# Altium schematic symbol library PowerMangment.SchLib: 147 symbols (part 1 of 2)
Pins are listed as number, name and electrical type; pins without a type are passive.

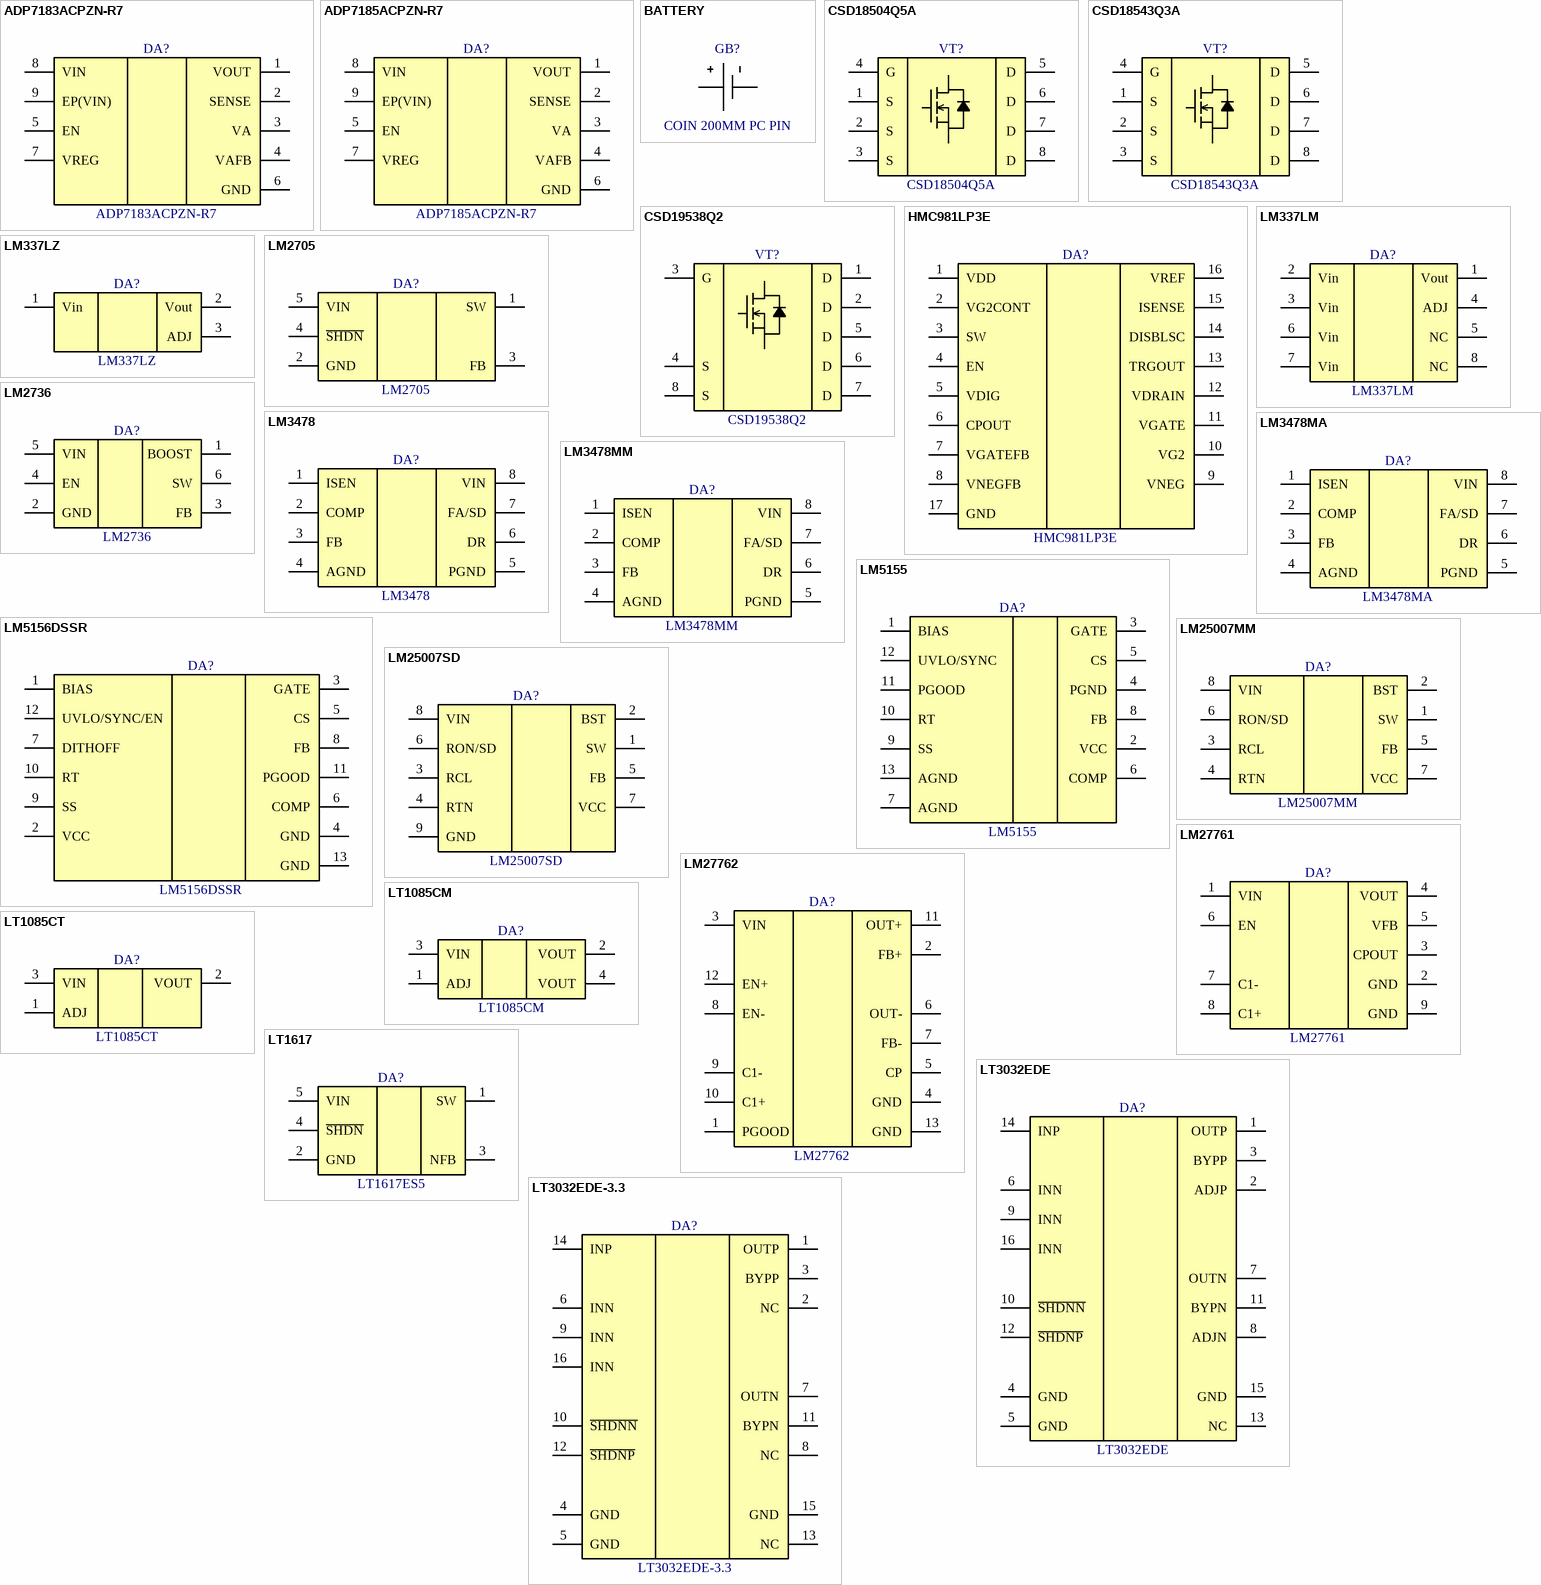
[diagram p0: symbols ADP7183ACPZN-R7 to LT3032EDE-3.3]

## ADP7183ACPZN-R7
designator DA?
−300 mA, Ultralow Noise, High PSRR, Low Dropout Linear Regulator, Adj.; Manufacturer: Analog Devices; PartNumber: ADP7183ACPZN-R7; ComponentLink1Description: Product Page; ComponentLink1URL: https://www.analog.com/en/products/ADP7183.html; ComponentLink2Description: DataSheet; ComponentLink2URL: https://www.analog.com/media/en/technical-documentation/data-sheets/ADP7183.pdf
footprint SON9P50_200X200X60L25X25T150X100N (Small Outline No-Lead (SON with Tab), 0.50 mm pitch; 8 pin, 2.00 mm L X 2.00 mm W X 0.60 mm H body)
pins: 1 VOUT, 2 SENSE, 3 VA, 4 VAFB, 5 EN, 6 GND, 7 VREG, 8 VIN, 9 EP(VIN)

## ADP7185ACPZN-R7
designator DA?
−300 mA, Ultralow Noise, High PSRR, Low Dropout Linear Regulator, Adj.; Manufacturer: Analog Devices; PartNumber: ADP7185ACPZN-R7; ComponentLink1Description: Product Page; ComponentLink1URL: https://www.analog.com/en/products/adp7185.html; ComponentLink2Description: DataSheet; ComponentLink2URL: https://www.analog.com/media/en/technical-documentation/data-sheets/ADP7185.pdf
footprint SON9P50_200X200X60L25X25T150X100N (Small Outline No-Lead (SON with Tab), 0.50 mm pitch; 8 pin, 2.00 mm L X 2.00 mm W X 0.60 mm H body)
pins: 1 VOUT, 2 SENSE, 3 VA, 4 VAFB, 5 EN, 6 GND, 7 VREG, 8 VIN, 9 EP(VIN)

## BATTERY
designator GB?, comment COIN 200MM PC PIN
Battery Holder; PartNumber: 120591-1; Manufacturer: TE Connectivity; BatteryType: COIN 200MM PC PIN; ComponentLink1Description: Product Page; ComponentLink1URL: https://www.te.com/usa-en/product-120591-1.html; ComponentLink2Description: DataSheet; ComponentLink2URL: https://www.te.com/usa-en/product-120591-1.datasheet.pdf
footprint TECO-120591-1-2_V (Lithium Battery Holder)
pins: 1, 2

## CSD18504Q5A
designator VT?
40-V N-Channel NexFET™ Power MOSFET; Manufacturer: Texas Instruments; PartNumber: CSD18504Q5A; ComponentLink1Description: Product Page; ComponentLink1URL: https://www.ti.com/product/CSD18504Q5A; ComponentLink2Description: DataSheet; ComponentLink2URL: https://www.ti.com/lit/gpn/csd18504q5a
footprint CSD18504Q5A (Texus Instruments Q5A Package)
pins: 1 S, 2 S, 3 S, 4 G, 5 D, 6 D, 7 D, 8 D

## CSD18543Q3A
designator VT?
60-V N-Channel NexFET™ Power MOSFET; Manufacturer: Texas Instruments; PartNumber: CSD18543Q3A; ComponentLink1Description: Product Page; ComponentLink1URL: https://www.ti.com/product/CSD18543Q3A; ComponentLink2Description: DataSheet; ComponentLink2URL: https://www.ti.com/lit/gpn/csd18543q3a
footprint CSD18543Q3A (Texas Instruments Q3A Package)
pins: 1 S, 2 S, 3 S, 4 G, 5 D, 6 D, 7 D, 8 D

## CSD19538Q2
designator VT?
100-V, N channel NexFET™ power MOSFET, single SON 2 mm x 2 mm, 59 mOhm; Manufacturer: Texas Instruments; PartNumber: CSD19538Q2; ComponentLink1Description: Product Page; ComponentLink1URL: https://www.ti.com/product/CSD19538Q2; ComponentLink2Description: DataSheet; ComponentLink2URL: https://www.ti.com/lit/gpn/csd19538q2
footprint TI DQK S-PWSON-N6 (TI Plastic Small Outline No-Lead 6pins, 2 gnd)
pins: 1 D, 2 D, 3 G, 4 S, 5 D, 6 D, 7 D, 8 S

## HMC981LP3E
designator DA?
ACTIVE BIAS CONTROLLER; Manufacturer: Analog Devices; PartNumber: HMC981LP3E; ComponentLink1Description: Product Page; ComponentLink1URL: https://www.analog.com/en/products/hmc981lp3e.html; ComponentLink2Description: DataSheet; ComponentLink2URL: https://www.analog.com/media/en/technical-documentation/data-sheets/hmc981.pdf
footprint QFN17P50_300X300X100L40X24T173N (Quad Flat No-Lead (QFN with Tab), 0.50 mm pitch; square, 4 pin X 4 pin, 3.00 mm L X 3.00 mm W X 1.00 mm H body)
pins: 1 VDD, 2 VG2CONT, 3 SW, 4 EN, 5 VDIG, 6 CPOUT, 7 VGATEFB, 8 VNEGFB, 9 VNEG, 10 VG2, 11 VGATE, 12 VDRAIN, 13 TRGOUT, 14 DISBLSC, 15 ISENSE, 16 VREF, 17 GND

## LM337LM
designator DA?
Negative 3-Terminal Adjustable Regulator, SOIC; Manufacturer: Texas Instruments; ComponentLink1Description: Product Page; ComponentLink1URL: https://www.ti.com/product/LM337L; PartNumber: LM337LM; ComponentLink2Description: DataSheet; ComponentLink2URL: https://www.ti.com/lit/gpn/lm337l
footprint SOIC8P127_490X600X175L83X41N (Small Outline IC (SOIC), 1.27 mm pitch; 8 pin, 4.90 mm L X 3.90 mm W X 1.75 mm H body)
pins: 1 Vout, 2 Vin, 3 Vin, 4 ADJ, 5 NC, 6 Vin, 7 Vin, 8 NC

## LM337LZ
designator DA?
Negative 3-Terminal Adjustable Regulator, TO-92; Manufacturer: Texas Instruments; ComponentLink1Description: Product Page; ComponentLink1URL: https://www.ti.com/product/LM337L; PartNumber: LM337LZ; ComponentLink2Description: DataSheet; ComponentLink2URL: https://www.ti.com/lit/gpn/lm337l
footprint TI TO-92 5.34 mm LP0003A
footprint TI TO-92 5.34 mm LP0003A_wide_2.6mm
pins: 1 Vin, 2 Vout, 3 ADJ

## LM2705
designator DA?
Micropower Step-Up DC-DC Converter With 150-mA Peak Current Limit; Manufacturer: Texas Instruments; PartNumber: LM2705; ComponentLink1Description: Product Page; ComponentLink1URL: https://www.ti.com/product/LM2705; ComponentLink2Description: DataSheet; ComponentLink2URL: https://www.ti.com/lit/gpn/lm2705
footprint SOT23-5P95_280X145L60X40N (Small Outline Transistor (SOT23), 0.95 mm pitch; 5 pin, 2.90 mm L X 1.60 mm W X 1.45 mm H body)
pins: 1 SW, 2 GND, 3 FB, 4 ~{SHDN}, 5 VIN

## LM2736
designator DA?
LM2736Thin SOT 750 mA Load Step-DownDC-DCRegulator; Manufacturer: Texas Instruments; PartNumber: LM2736; ComponentLink1Description: Product Page; ComponentLink1URL: https://www.ti.com/product/LM2736; ComponentLink2Description: DataSheet; ComponentLink2URL: https://www.ti.com/lit/gpn/lm2736
footprint SOT23-6P95_280X110L45X40N (Small Outline Transistor (SOT23), 0.95 mm pitch; 6 pin, 2.90 mm L X 1.60 mm W X 1.10 mm H body)
pins: 1 BOOST, 2 GND, 3 FB, 4 EN, 5 VIN, 6 SW

## LM3478
designator DA?
High-Efficiency Low-Side N-Channel Controller for Switching Regulator; Manufacturer: Texas Instruments; PartNumber: LM3478; ComponentLink1Description: Product Page; ComponentLink1URL: https://www.ti.com/product/LM3478; ComponentLink2Description: DataSheet; ComponentLink2URL: https://www.ti.com/lit/gpn/lm3478
footprint SOIC8P127_490X600X175L83X41N (Small Outline IC (SOIC), 1.27 mm pitch; 8 pin, 4.90 mm L X 3.90 mm W X 1.75 mm H body)
footprint SOP8P65_300X490X110L55X31N (Small Outline Pkg (SOP), 0.65 mm pitch; 8 pin, 3.00 mm L X 3.00 mm W X 1.10 mm H body)
pins: 1 ISEN, 2 COMP, 3 FB, 4 AGND, 5 PGND, 6 DR, 7 FA/SD, 8 VIN

## LM3478MA
designator DA?
High-Efficiency Low-Side N-Channel Controller for Switching Regulator, SOIC-8; Manufacturer: Texas Instruments; PartNumber: LM3478MA; ComponentLink1Description: Product Page; ComponentLink1URL: https://www.ti.com/product/LM3478; ComponentLink2Description: DataSheet; ComponentLink2URL: https://www.ti.com/lit/gpn/lm3478
footprint SOIC8P127_490X600X175L83X41N (Small Outline IC (SOIC), 1.27 mm pitch; 8 pin, 4.90 mm L X 3.90 mm W X 1.75 mm H body)
pins: 1 ISEN, 2 COMP, 3 FB, 4 AGND, 5 PGND, 6 DR, 7 FA/SD, 8 VIN

## LM3478MM
designator DA?
High-Efficiency Low-Side N-Channel Controller for Switching Regulator, VSSOP-8; Manufacturer: Texas Instruments; PartNumber: LM3478MM; ComponentLink1Description: Product Page; ComponentLink1URL: https://www.ti.com/product/LM3478; ComponentLink2Description: DataSheet; ComponentLink2URL: https://www.ti.com/lit/gpn/lm3478
footprint SOP8P65_300X490X110L55X31N (Small Outline Pkg (SOP), 0.65 mm pitch; 8 pin, 3.00 mm L X 3.00 mm W X 1.10 mm H body)
pins: 1 ISEN, 2 COMP, 3 FB, 4 AGND, 5 PGND, 6 DR, 7 FA/SD, 8 VIN

## LM5155
designator DA?
LM5155 2.2-MHz Wide Input Nonsynchronous Boost, SEPIC, Flyback Controller; Manufacturer: Texas Instruments; PartNumber: LM5155; ComponentLink1Description: Product Page; ComponentLink1URL: https://www.ti.com/lit/gpn/lm5155; ComponentLink2Description: DataSheet; ComponentLink2URL: https://www.ti.com/lit/gpn/lm5155
footprint SON13P50_300X200X80L30X25T265X100N (Small Outline No-Lead (SON with Tab), 0.50 mm pitch; 12 pin, 3.00 mm L X 2.00 mm W X 0.80 mm H body)
pins: 1 BIAS, 2 VCC, 3 GATE, 4 PGND, 5 CS, 6 COMP, 7 AGND, 8 FB, 9 SS, 10 RT, 11 PGOOD, 12 UVLO/SYNC, 13 AGND

## LM5156DSSR
designator DA?
2.2-MHz Wide VIN 65-V Non-synchronous Boost/SEPIC/Flyback Controller with Dual Random Spread Spectrum; Manufacturer: Texas Instruments; PartNumber: LM5156DSSR; ComponentLink1Description: Product Page; ComponentLink1URL: https://www.ti.com/product/LM5156; ComponentLink2Description: DataSheet; ComponentLink2URL: https://www.ti.com/lit/gpn/lm5156
footprint SON13P50_300X200X80L30X25T265X100N (Small Outline No-Lead (SON with Tab), 0.50 mm pitch; 12 pin, 3.00 mm L X 2.00 mm W X 0.80 mm H body)
pins: 1 BIAS, 2 VCC, 3 GATE, 4 GND, 5 CS, 6 COMP, 7 DITHOFF, 8 FB, 9 SS, 10 RT, 11 PGOOD, 12 UVLO/SYNC/EN, 13 GND

## LM25007MM
designator DA?
LM25007 42V, 0.5A Step-Down Switching Regulator; Manufacturer: Texas Instruments; PartNumber: LM25007MM; ComponentLink1Description: Product Page; ComponentLink1URL: https://www.ti.com/product/LM25007; ComponentLink2Description: DataSheet; ComponentLink2URL: https://www.ti.com/lit/gpn/lm25007
footprint SOP8P65_300X490X110L55X31N (Small Outline Pkg (SOP), 0.65 mm pitch; 8 pin, 3.00 mm L X 3.00 mm W X 1.10 mm H body)
pins: 1 SW, 2 BST, 3 RCL, 4 RTN, 5 FB, 6 RON/SD, 7 VCC, 8 VIN

## LM25007SD
designator DA?
LM25007 42V, 0.5A Step-Down Switching Regulator; Manufacturer: Texas Instruments; PartNumber: LM25007SD; ComponentLink1Description: Product Page; ComponentLink1URL: https://www.ti.com/product/LM25007; ComponentLink2Description: DataSheet; ComponentLink2URL: https://www.ti.com/lit/gpn/lm25007
footprint SON9P80_400X400X80L40X30T300X260N (Small Outline No-Lead (SON with Tab), 0.80 mm pitch; 8 pin, 4.00 mm L X 4.00 mm W X 0.80 mm H body)
pins: 1 SW, 2 BST, 3 RCL, 4 RTN, 5 FB, 6 RON/SD, 7 VCC, 8 VIN, 9 GND

## LM27761
designator DA?
LM27761 Low-Noise, Regulated, Switched-Capacitor Voltage Inverter; Manufacturer: Texas Instruments; PartNumber: LM27761; ComponentLink1Description: Product Page; ComponentLink1URL: https://www.ti.com/product/LM27761; ComponentLink2Description: DataSheet; ComponentLink2URL: https://www.ti.com/lit/gpn/lm27761
footprint SON9P50_200X200X80L30X25T160X90N (Small Outline No-Lead (SON with Tab), 0.50 mm pitch; 8 pin, 2.00 mm L X 2.00 mm W X 0.80 mm H body)
pins: 1 VIN, 2 GND, 3 CPOUT, 4 VOUT, 5 VFB, 6 EN, 7 C1-, 8 C1+, 9 GND

## LM27762
designator DA?
Low-Noise Positive- and Negative-Output Charge Pump With Integrated LDO; Manufacturer: Texas Instruments; PartNumber: LM27762; ComponentLink1Description: Product Page; ComponentLink1URL: https://www.ti.com/product/LM27762; ComponentLink2Description: DataSheet; ComponentLink2URL: https://www.ti.com/lit/gpn/lm27762
footprint SON13P50_300X200X80L30X25T265X100N (Small Outline No-Lead (SON with Tab), 0.50 mm pitch; 12 pin, 3.00 mm L X 2.00 mm W X 0.80 mm H body)
pins: 1 PGOOD, 2 FB+, 3 VIN, 4 GND, 5 CP, 6 OUT-, 7 FB-, 8 EN-, 9 C1-, 10 C1+, 11 OUT+, 12 EN+, 13 GND

## LT1085CM
designator DA?
3A Low Dropout Positive Adjustable Regulators, DPAK; Manufacturer: Analog Devices; PartNumber: LT1085CM; ComponentLink1Description: Product Page; ComponentLink1URL: https://www.analog.com/en/products/LT1085.html; ComponentLink2Description: DataSheet; ComponentLink2URL: https://www.analog.com/media/en/technical-documentation/data-sheets/108345fh.pdf
footprint DPAK4P254_1390X460L127X127T770X1070N (DPAK, 2.54 mm pitch; 3 pin, 8.90 mm L X 10.20 mm W X 4.60 mm H body)
pins: 1 ADJ, 2 VOUT, 3 VIN, 4 VOUT

## LT1085CT
designator DA?
3A Low Dropout Positive Adjustable Regulators, TO-220; Manufacturer: Analog Devices; PartNumber: LT1085CT; ComponentLink1Description: Product Page; ComponentLink1URL: https://www.analog.com/en/products/lt1085.html; ComponentLink2Description: DataSheet; ComponentLink2URL: https://www.analog.com/media/en/technical-documentation/data-sheets/108345fh.pdf
footprint TO254P1050X460X2165-3 (TO-220 Vertical)
footprint TO254P1574X1054X457-4 (Flange Mount (TO-220) Horizontal, 2.54 mm pitch; 3 pin, 15.748 mm L X 10.541 mm W X 4.572 mm H body)
pins: 1 ADJ, 2 VOUT, 3 VIN

## LT1617
designator DA?, comment LT1617ES5
Micropower Inverting DC/DC Converters in SOT-23; Manufacturer: Analog Devices; PartNumber: LT1617ES5; ComponentLink1Description: Product Page; ComponentLink1URL: https://www.analog.com/en/products/lt1617.html; ComponentLink2Description: DataSheet; ComponentLink2URL: https://www.analog.com/media/en/technical-documentation/data-sheets/16171f.pdf
footprint SOT23-5P95_280X145L35X42N (Small Outline Transistor (SOT23), 0.95 mm pitch; 5 pin, 2.90 mm L X 1.625 mm W X 1.45 mm H body)
pins: 1 SW, 2 GND, 3 NFB, 4 ~{SHDN}, 5 VIN

## LT3032EDE
designator DA?
Dual 150mA Positive/Negative Low Noise Low Dropout Linear Regulator, ±Adj; Manufacturer: Analog Devices; PartNumber: LT3032EDE; ComponentLink1Description: Product Page; ComponentLink1URL: https://www.analog.com/en/products/LT3032.html; ComponentLink2Description: DataSheet; ComponentLink2URL: https://www.analog.com/media/en/technical-documentation/data-sheets/3032ff.pdf
footprint LT3032 (DE14MA Package / 14-Lead Plastic DFN (4mm × 3mm))
pins: 1 OUTP, 2 ADJP, 3 BYPP, 4 GND, 5 GND, 6 INN, 7 OUTN, 8 ADJN, 9 INN, 10 ~{SHDNN}, 11 BYPN, 12 ~{SHDNP}, 13 NC, 14 INP, 15 GND, 16 INN

## LT3032EDE-3.3
designator DA?
Dual 150mA Positive/Negative Low Noise Low Dropout Linear Regulator, ±3.3V Fixed; Manufacturer: Analog Devices; PartNumber: LT3032EDE-3.3; ComponentLink1Description: Product Page; ComponentLink1URL: https://www.analog.com/en/products/LT3032.html; ComponentLink2Description: DataSheet; ComponentLink2URL: https://www.analog.com/media/en/technical-documentation/data-sheets/3032ff.pdf
footprint LT3032 (DE14MA Package / 14-Lead Plastic DFN (4mm × 3mm))
pins: 1 OUTP, 2 NC, 3 BYPP, 4 GND, 5 GND, 6 INN, 7 OUTN, 8 NC, 9 INN, 10 ~{SHDNN}, 11 BYPN, 12 ~{SHDNP}, 13 NC, 14 INP, 15 GND, 16 INN

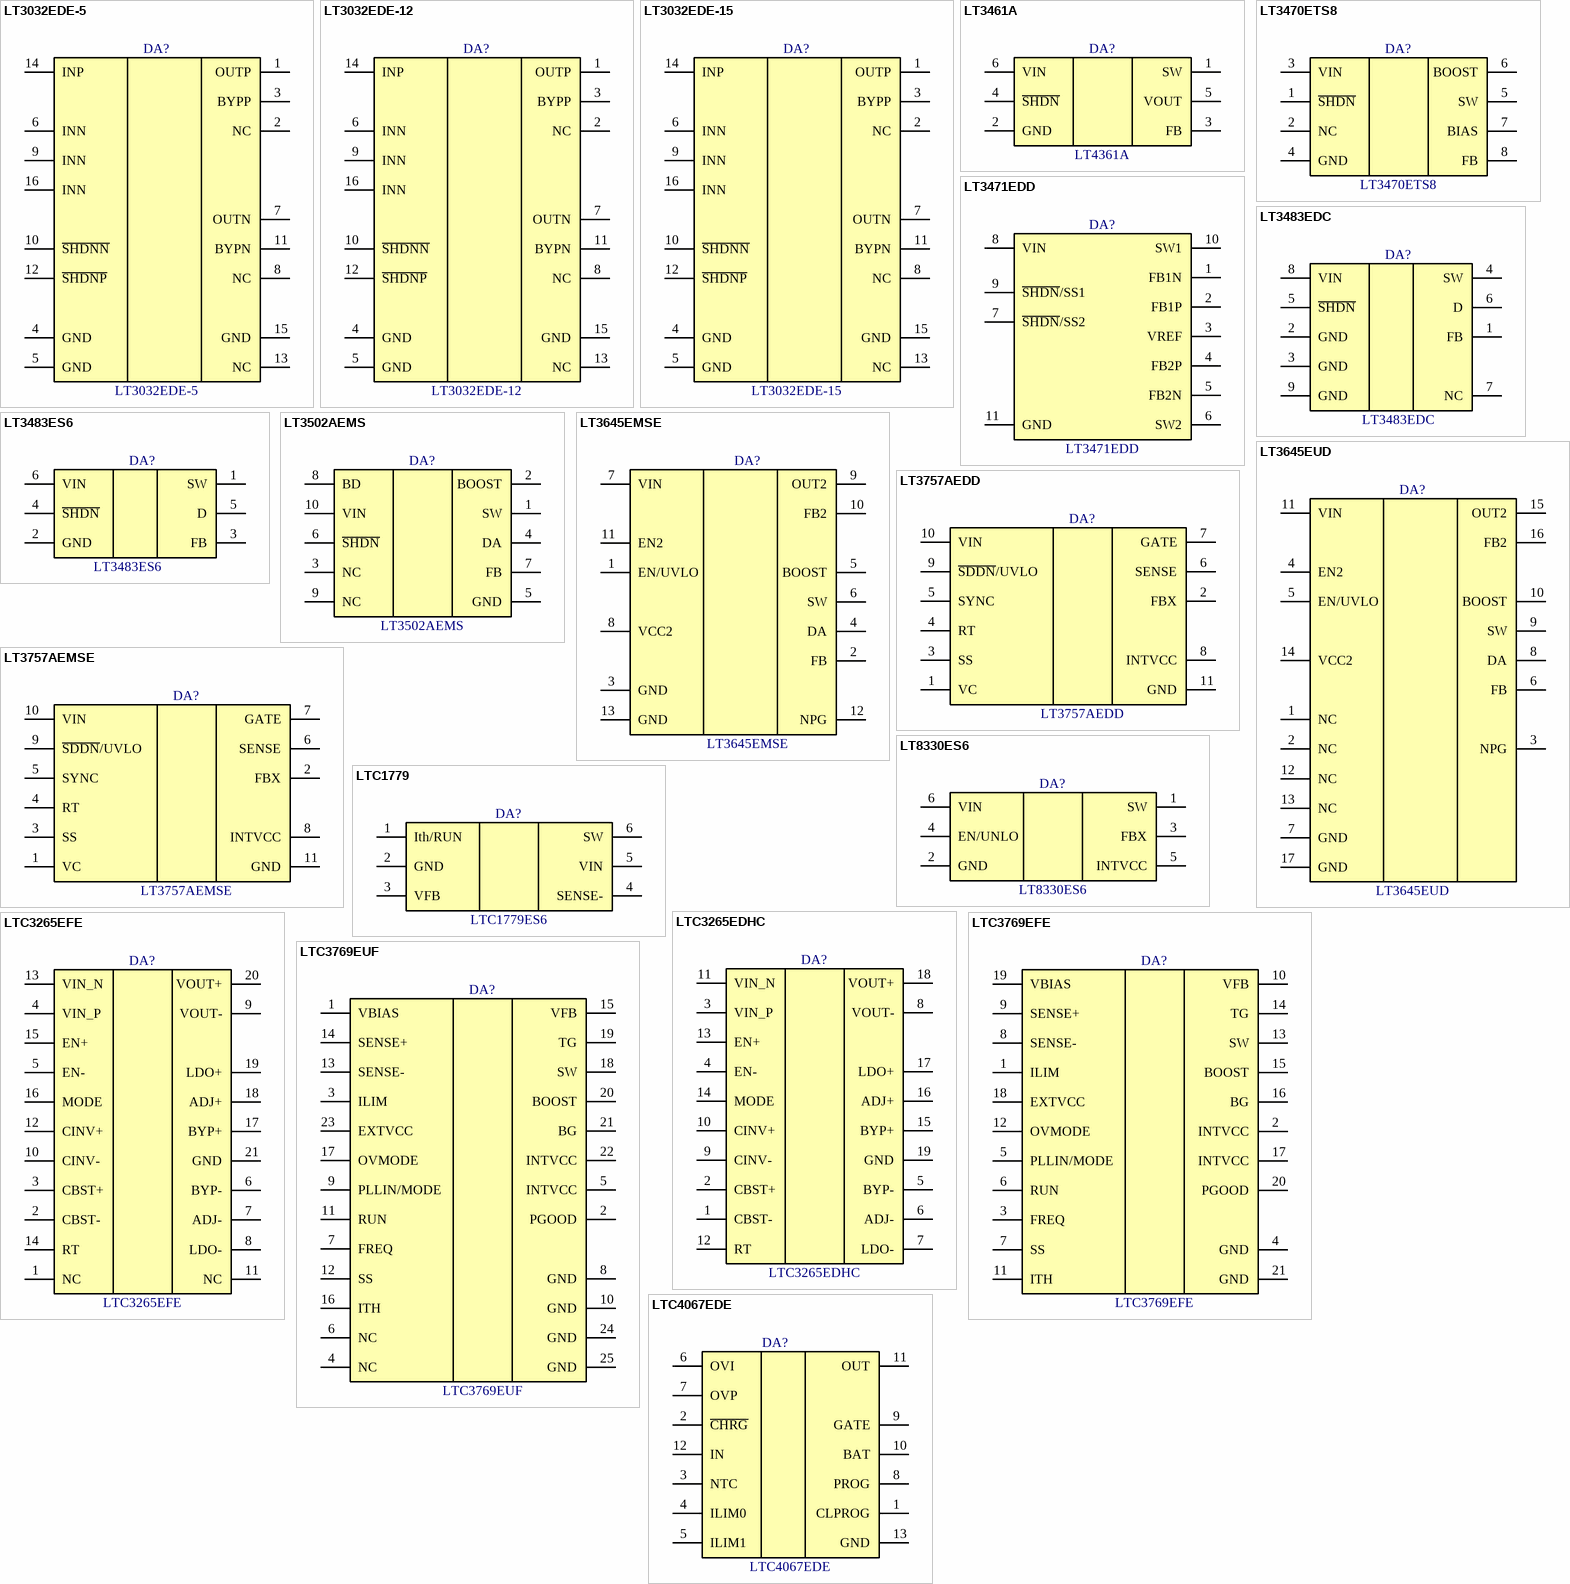
[diagram p1: symbols LT3032EDE-5 to LTC4067EDE]

## LT3032EDE-5
designator DA?
Dual 150mA Positive/Negative Low Noise Low Dropout Linear Regulator, ±5V Fixed; Manufacturer: Analog Devices; PartNumber: LT3032EDE-5; ComponentLink1Description: Product Page; ComponentLink1URL: https://www.analog.com/en/products/LT3032.html; ComponentLink2Description: DataSheet; ComponentLink2URL: https://www.analog.com/media/en/technical-documentation/data-sheets/3032ff.pdf
footprint LT3032 (DE14MA Package / 14-Lead Plastic DFN (4mm × 3mm))
pins: 1 OUTP, 2 NC, 3 BYPP, 4 GND, 5 GND, 6 INN, 7 OUTN, 8 NC, 9 INN, 10 ~{SHDNN}, 11 BYPN, 12 ~{SHDNP}, 13 NC, 14 INP, 15 GND, 16 INN

## LT3032EDE-12
designator DA?
Dual 150mA Positive/Negative Low Noise Low Dropout Linear Regulator, ±12V Fixed; Manufacturer: Analog Devices; PartNumber: LT3032EDE-12; ComponentLink1Description: Product Page; ComponentLink1URL: https://www.analog.com/en/products/LT3032.html; ComponentLink2Description: DataSheet; ComponentLink2URL: https://www.analog.com/media/en/technical-documentation/data-sheets/3032ff.pdf
footprint LT3032 (DE14MA Package / 14-Lead Plastic DFN (4mm × 3mm))
pins: 1 OUTP, 2 NC, 3 BYPP, 4 GND, 5 GND, 6 INN, 7 OUTN, 8 NC, 9 INN, 10 ~{SHDNN}, 11 BYPN, 12 ~{SHDNP}, 13 NC, 14 INP, 15 GND, 16 INN

## LT3032EDE-15
designator DA?
Dual 150mA Positive/Negative Low Noise Low Dropout Linear Regulator, ±15V Fixed; Manufacturer: Analog Devices; PartNumber: LT3032EDE-15; ComponentLink1Description: Product Page; ComponentLink1URL: https://www.analog.com/en/products/LT3032.html; ComponentLink2Description: DataSheet; ComponentLink2URL: https://www.analog.com/media/en/technical-documentation/data-sheets/3032ff.pdf
footprint LT3032 (DE14MA Package / 14-Lead Plastic DFN (4mm × 3mm))
pins: 1 OUTP, 2 NC, 3 BYPP, 4 GND, 5 GND, 6 INN, 7 OUTN, 8 NC, 9 INN, 10 ~{SHDNN}, 11 BYPN, 12 ~{SHDNP}, 13 NC, 14 INP, 15 GND, 16 INN

## LT3461A
designator DA?, comment LT4361A
3MHz Step-Up DC/DC Converters with Integrated Schottky in ThinSOT; Manufacturer: Analog Devices; PartNumber: LT4361A; ComponentLink1Description: Product Page; ComponentLink1URL: https://www.analog.com/en/products/lt3461a.html; ComponentLink2Description: DataSheet; ComponentLink2URL: https://www.analog.com/media/en/technical-documentation/data-sheets/3461Afa.pdf
footprint SOT95P280X100-6N (SOT23, 6-Leads, Body 2.90x2.80mm, Pitch 0.95mm, IPC Medium Density)
pins: 1 SW, 2 GND, 3 FB, 4 ~{SHDN}, 5 VOUT, 6 VIN

## LT3470ETS8
designator DA?
Micropower Buck Regulator with Integrated Boost and Catch Diodes, 8-Lead TSOT-23; Manufacturer: Analog Devices; PartNumber: LT3470ETS8; ComponentLink1Description: Product Page; ComponentLink1URL: https://www.analog.com/en/products/LT3470.html; ComponentLink2Description: DataSheet; ComponentLink2URL: https://www.analog.com/media/en/technical-documentation/data-sheets/lt3470.pdf
footprint SOT23-8P65_280X100L40X29N (Small Outline Transistor (SOT23), 0.65 mm pitch; 8 pin, 2.90 mm L X 1.625 mm W X 1.00 mm H body)
pins: 1 ~{SHDN}, 2 NC, 3 VIN, 4 GND, 5 SW, 6 BOOST, 7 BIAS, 8 FB

## LT3471EDD
designator DA?
Dual 1.3A, 1.2MHz Boost/Inverter in 3mm × 3mm DFN; Manufacturer: Analog Devices; PartNumber: LT3471EDD; ComponentLink1Description: Product Page; ComponentLink1URL: https://www.analog.com/en/products/lt3471.html; ComponentLink2Description: DataSheet; ComponentLink2URL: https://www.analog.com/media/en/technical-documentation/data-sheets/3471fb.pdf
footprint SON11P50_300X300X80L38X25T238X165N (Small Outline No-Lead (SON with Tab), 0.50 mm pitch; 10 pin, 3.00 mm L X 3.00 mm W X 0.80 mm H body)
pins: 1 FB1N, 2 FB1P, 3 VREF, 4 FB2P, 5 FB2N, 6 SW2, 7 ~{SHDN}/SS2, 8 VIN, 9 ~{SHDN}/SS1, 10 SW1, 11 GND

## LT3483EDC
designator DA?
Inverting Micropower DC/DC Converters with Schottky; Manufacturer: Analog Devices; PartNumber: LT3483EDC; ComponentLink1Description: Product Page; ComponentLink1URL: https://www.analog.com/en/products/lt3483.html; ComponentLink2Description: DataSheet; ComponentLink2URL: https://www.analog.com/media/en/technical-documentation/data-sheets/3483fc.pdf
footprint SON9P45_200X200X80L40X23T137X64N (Small Outline No-Lead (SON with Tab), 0.45 mm pitch; 8 pin, 2.00 mm L X 2.00 mm W X 0.80 mm H body)
pins: 1 FB, 2 GND, 3 GND, 4 SW, 5 ~{SHDN}, 6 D, 7 NC, 8 VIN, 9 GND

## LT3483ES6
designator DA?
Inverting Micropower DC/DC Converters with Schottky; Manufacturer: Analog Devices; PartNumber: LT3483ES6; ComponentLink1Description: Product Page; ComponentLink1URL: https://www.analog.com/en/products/lt3483.html; ComponentLink2Description: DataSheet; ComponentLink2URL: https://www.analog.com/media/en/technical-documentation/data-sheets/3483fc.pdf
footprint SOP6P95_290X280X100L40X37N (Small Outline Pkg (SOP), 0.95 mm pitch; 6 pin, 2.90 mm L X 1.625 mm W X 1.00 mm H body)
pins: 1 SW, 2 GND, 3 FB, 4 ~{SHDN}, 5 D, 6 VIN

## LT3502AEMS
designator DA?
2.2MHz, 500mA Step-Down Regulator, MS10 (SOP10); Manufacturer: Analog Devices; PartNumber: LT3502AEMS; ComponentLink1Description: Product Page; ComponentLink1URL: https://www.analog.com/en/products/LT3502.html; ComponentLink2Description: DataSheet; ComponentLink2URL: https://www.analog.com/media/en/technical-documentation/data-sheets/lt3502.pdf
footprint SOP10P50_300X490X110L53X22N (Small Outline Pkg (SOP), 0.50 mm pitch; 10 pin, 3.00 mm L X 3.00 mm W X 1.10 mm H body)
pins: 1 SW, 2 BOOST, 3 NC, 4 DA, 5 GND, 6 ~{SHDN}, 7 FB, 8 BD, 9 NC, 10 VIN

## LT3645EMSE
designator DA?
36V 500mA Step-Down Regulator and 200mA LDO, 12-MSOP; Manufacturer: Analog Devices; PartNumber: LT3645EMSE; ComponentLink1Description: Product Page; ComponentLink1URL: https://www.analog.com/en/products/lt3645.html; ComponentLink2Description: DataSheet; ComponentLink2URL: https://www.analog.com/media/en/technical-documentation/data-sheets/3645f.pdf
footprint TSOP65P490X110_HS-13N (TSOP, 12-Leads, Body 4.04x3.00mm, Pitch 0.65mm, Thermal Pad 2.95x1.75mm, IPC Medium Density)
pins: 1 EN/UVLO, 2 FB, 3 GND, 4 DA, 5 BOOST, 6 SW, 7 VIN, 8 VCC2, 9 OUT2, 10 FB2, 11 EN2, 12 NPG, 13 GND

## LT3645EUD
designator DA?
36V 500mA Step-Down Regulator and 200mA LDO, 16- QFN; Manufacturer: Analog Devices; PartNumber: LT3645EUD; ComponentLink1Description: Product Page; ComponentLink1URL: https://www.analog.com/en/products/lt3645.html; ComponentLink2Description: DataSheet; ComponentLink2URL: https://www.analog.com/media/en/technical-documentation/data-sheets/3645f.pdf
footprint QFN17P50_300X300X80L40X25T145N (Quad Flat No-Lead (QFN with Tab), 0.50 mm pitch; square, 4 pin X 4 pin, 3.00 mm L X 3.00 mm W X 0.80 mm H body)
pins: 1 NC, 2 NC, 3 NPG, 4 EN2, 5 EN/UVLO, 6 FB, 7 GND, 8 DA, 9 SW, 10 BOOST, 11 VIN, 12 NC, 13 NC, 14 VCC2, 15 OUT2, 16 FB2, 17 GND

## LT3757AEDD
designator DA?
Boost, Flyback, SEPIC and Inverting Controller, 10-DFN; Manufacturer: Analog Devices; PartNumber: LT3757AEDD; ComponentLink1Description: Product Page; ComponentLink1URL: https://www.analog.com/en/products/lt3757.html; ComponentLink2Description: DataSheet; ComponentLink2URL: https://www.analog.com/media/en/technical-documentation/data-sheets/lt3757-3757a.pdf
footprint SON11P50_300X300X80L40X25T238X165N (Small Outline No-Lead (SON with Tab), 0.50 mm pitch; 10 pin, 3.00 mm L X 3.00 mm W X 0.80 mm H body)
pins: 1 VC, 2 FBX, 3 SS, 4 RT, 5 SYNC, 6 SENSE, 7 GATE, 8 INTVCC, 9 ~{SDDN}/UVLO, 10 VIN, 11 GND

## LT3757AEMSE
designator DA?
Boost, Flyback, SEPIC and Inverting Controller, 10-MSOP; Manufacturer: Analog Devices; PartNumber: LT3757AEMSE; ComponentLink1Description: Product Page; ComponentLink1URL: https://www.analog.com/en/products/lt3757.html; ComponentLink2Description: DataSheet; ComponentLink2URL: https://www.analog.com/media/en/technical-documentation/data-sheets/lt3757-3757a.pdf
footprint SOP11P50_300X490X110L53X22T188X168N (Small Outline Pkg (SOP with Tab), 0.50 mm pitch; 10 pin, 3.00 mm L X 3.00 mm W X 1.10 mm H body)
pins: 1 VC, 2 FBX, 3 SS, 4 RT, 5 SYNC, 6 SENSE, 7 GATE, 8 INTVCC, 9 ~{SDDN}/UVLO, 10 VIN, 11 GND

## LT8330ES6
designator DA?
Low IQ Boost/SEPIC/Inverting Converter with 1A, 60V Switch, 6-pin TSOP; Manufacturer: Analog Devices; PartNumber: LT8330ES6; ComponentLink1Description: Product Page; ComponentLink1URL: https://www.analog.com/en/products/LT8330.html; ComponentLink2Description: DataSheet; ComponentLink2URL: https://www.analog.com/media/en/technical-documentation/data-sheets/lt8330.pdf
footprint SOT23-6P95_280X100L40X37N (Small Outline Transistor (SOT23), 0.95 mm pitch; 6 pin, 2.90 mm L X 1.625 mm W X 1.00 mm H body)
pins: 1 SW, 2 GND, 3 FBX, 4 EN/UNLO, 5 INTVCC, 6 VIN

## LTC1779
designator DA?, comment LTC1779ES6
250mA Current Mode Step-Down DC/DC Converter; Manufacturer: Analog Devices; PartNumber: LTC1779ES6; ComponentLink1Description: Product Page; ComponentLink1URL: https://www.analog.com/en/products/ltc1779.html; ComponentLink2Description: DataSheet; ComponentLink2URL: https://www.analog.com/media/en/technical-documentation/data-sheets/1779fa.pdf
footprint SOP6P95_290X280X100L40X37N (Small Outline Pkg (SOP), 0.95 mm pitch; 6 pin, 2.90 mm L X 1.625 mm W X 1.00 mm H body)
pins: 1 Ith/RUN, 2 GND, 3 VFB, 4 SENSE-, 5 VIN, 6 SW

## LTC3265EDHC
designator DA?
Low Noise Dual Supply  with Boost and Inverting Charge Pumps, 18-DFN; Manufacturer: Analog Devices; PartNumber: LTC3265EDHC; ComponentLink1Description: Product Page; ComponentLink1URL: https://www.analog.com/en/products/ltc3265.html; ComponentLink2Description: DataSheet; ComponentLink2URL: https://www.analog.com/media/en/technical-documentation/data-sheets/3265fa.pdf
footprint SON19P50_500X300X80L40X25T440X165N (Small Outline No-Lead (SON with Tab), 0.50 mm pitch; 18 pin, 5.00 mm L X 3.00 mm W X 0.80 mm H body)
pins: 1 CBST-, 2 CBST+, 3 VIN_P, 4 EN-, 5 BYP-, 6 ADJ-, 7 LDO-, 8 VOUT-, 9 CINV-, 10 CINV+, 11 VIN_N, 12 RT, 13 EN+, 14 MODE, 15 BYP+, 16 ADJ+, 17 LDO+, 18 VOUT+, 19 GND

## LTC3265EFE
designator DA?
Low Noise Dual Supply  with Boost and Inverting Charge Pumps, 20-TSSOP; Manufacturer: Analog Devices; PartNumber: LTC3265EFE; ComponentLink1Description: Product Page; ComponentLink1URL: https://www.analog.com/en/products/ltc3265.html; ComponentLink2Description: DataSheet; ComponentLink2URL: https://www.analog.com/media/en/technical-documentation/data-sheets/3265fa.pdf
footprint SOP21P65_650X640X120L62X24T607X274N (Small Outline Pkg (SOP with Tab), 0.65 mm pitch; 20 pin, 6.50 mm L X 4.40 mm W X 1.20 mm H body)
pins: 1 NC, 2 CBST-, 3 CBST+, 4 VIN_P, 5 EN-, 6 BYP-, 7 ADJ-, 8 LDO-, 9 VOUT-, 10 CINV-, 11 NC, 12 CINV+, 13 VIN_N, 14 RT, 15 EN+, 16 MODE, 17 BYP+, 18 ADJ+, 19 LDO+, 20 VOUT+, 21 GND

## LTC3769EFE
designator DA?
60V Low IQ Synchronous  Boost Controller, 24-QFN, 20-SSOP; Manufacturer: Analog Devices; PartNumber: LTC3769EFE; ComponentLink1Description: Product Page; ComponentLink1URL: https://www.analog.com/en/products/ltc3769.html; ComponentLink2Description: DataSheet; ComponentLink2URL: https://www.analog.com/media/en/technical-documentation/data-sheets/ltc3769.pdf
footprint SOP21P65_650X640X120L62X24T607X274N (Small Outline Pkg (SOP with Tab), 0.65 mm pitch; 20 pin, 6.50 mm L X 4.40 mm W X 1.20 mm H body)
pins: 1 ILIM, 2 INTVCC, 3 FREQ, 4 GND, 5 PLLIN/MODE, 6 RUN, 7 SS, 8 SENSE-, 9 SENSE+, 10 VFB, 11 ITH, 12 OVMODE, 13 SW, 14 TG, 15 BOOST, 16 BG, 17 INTVCC, 18 EXTVCC, 19 VBIAS, 20 PGOOD, 21 GND

## LTC3769EUF
designator DA?
60V Low IQ Synchronous  Boost Controller, 24-QFN; Manufacturer: Analog Devices; PartNumber: LTC3769EUF; ComponentLink1Description: Product Page; ComponentLink1URL: https://www.analog.com/en/products/ltc3769.html; ComponentLink2Description: DataSheet; ComponentLink2URL: https://www.analog.com/media/en/technical-documentation/data-sheets/ltc3769.pdf
footprint QFN25P50_400X400X80L40X25T245N (Quad Flat No-Lead (QFN with Tab), 0.50 mm pitch; square, 6 pin X 6 pin, 4.00 mm L X 4.00 mm W X 0.80 mm H body)
pins: 1 VBIAS, 2 PGOOD, 3 ILIM, 4 NC, 5 INTVCC, 6 NC, 7 FREQ, 8 GND, 9 PLLIN/MODE, 10 GND, 11 RUN, 12 SS, 13 SENSE-, 14 SENSE+, 15 VFB, 16 ITH, 17 OVMODE, 18 SW, 19 TG, 20 BOOST, 21 BG, 22 INTVCC, 23 EXTVCC, 24 GND, 25 GND

## LTC4067EDE
designator DA?
SB Power Manager with OVP and Li-Ion/Polymer Charger; Manufacturer: Analog Devices; PartNumber: LTC4067EDE; ComponentLink1Description: Product Page; ComponentLink1URL: https://www.analog.com/en/products/ltc4067.html; ComponentLink2Description: DataSheet; ComponentLink2URL: https://www.analog.com/media/en/technical-documentation/data-sheets/4067f.pdf
footprint SON13P50_400X300X80L40X25T330X170N (Small Outline No-Lead (SON with Tab), 0.50 mm pitch; 12 pin, 4.00 mm L X 3.00 mm W X 0.80 mm H body)
pins: 1 CLPROG, 2 ~{CHRG}, 3 NTC, 4 ILIM0, 5 ILIM1, 6 OVI, 7 OVP, 8 PROG, 9 GATE, 10 BAT, 11 OUT, 12 IN, 13 GND

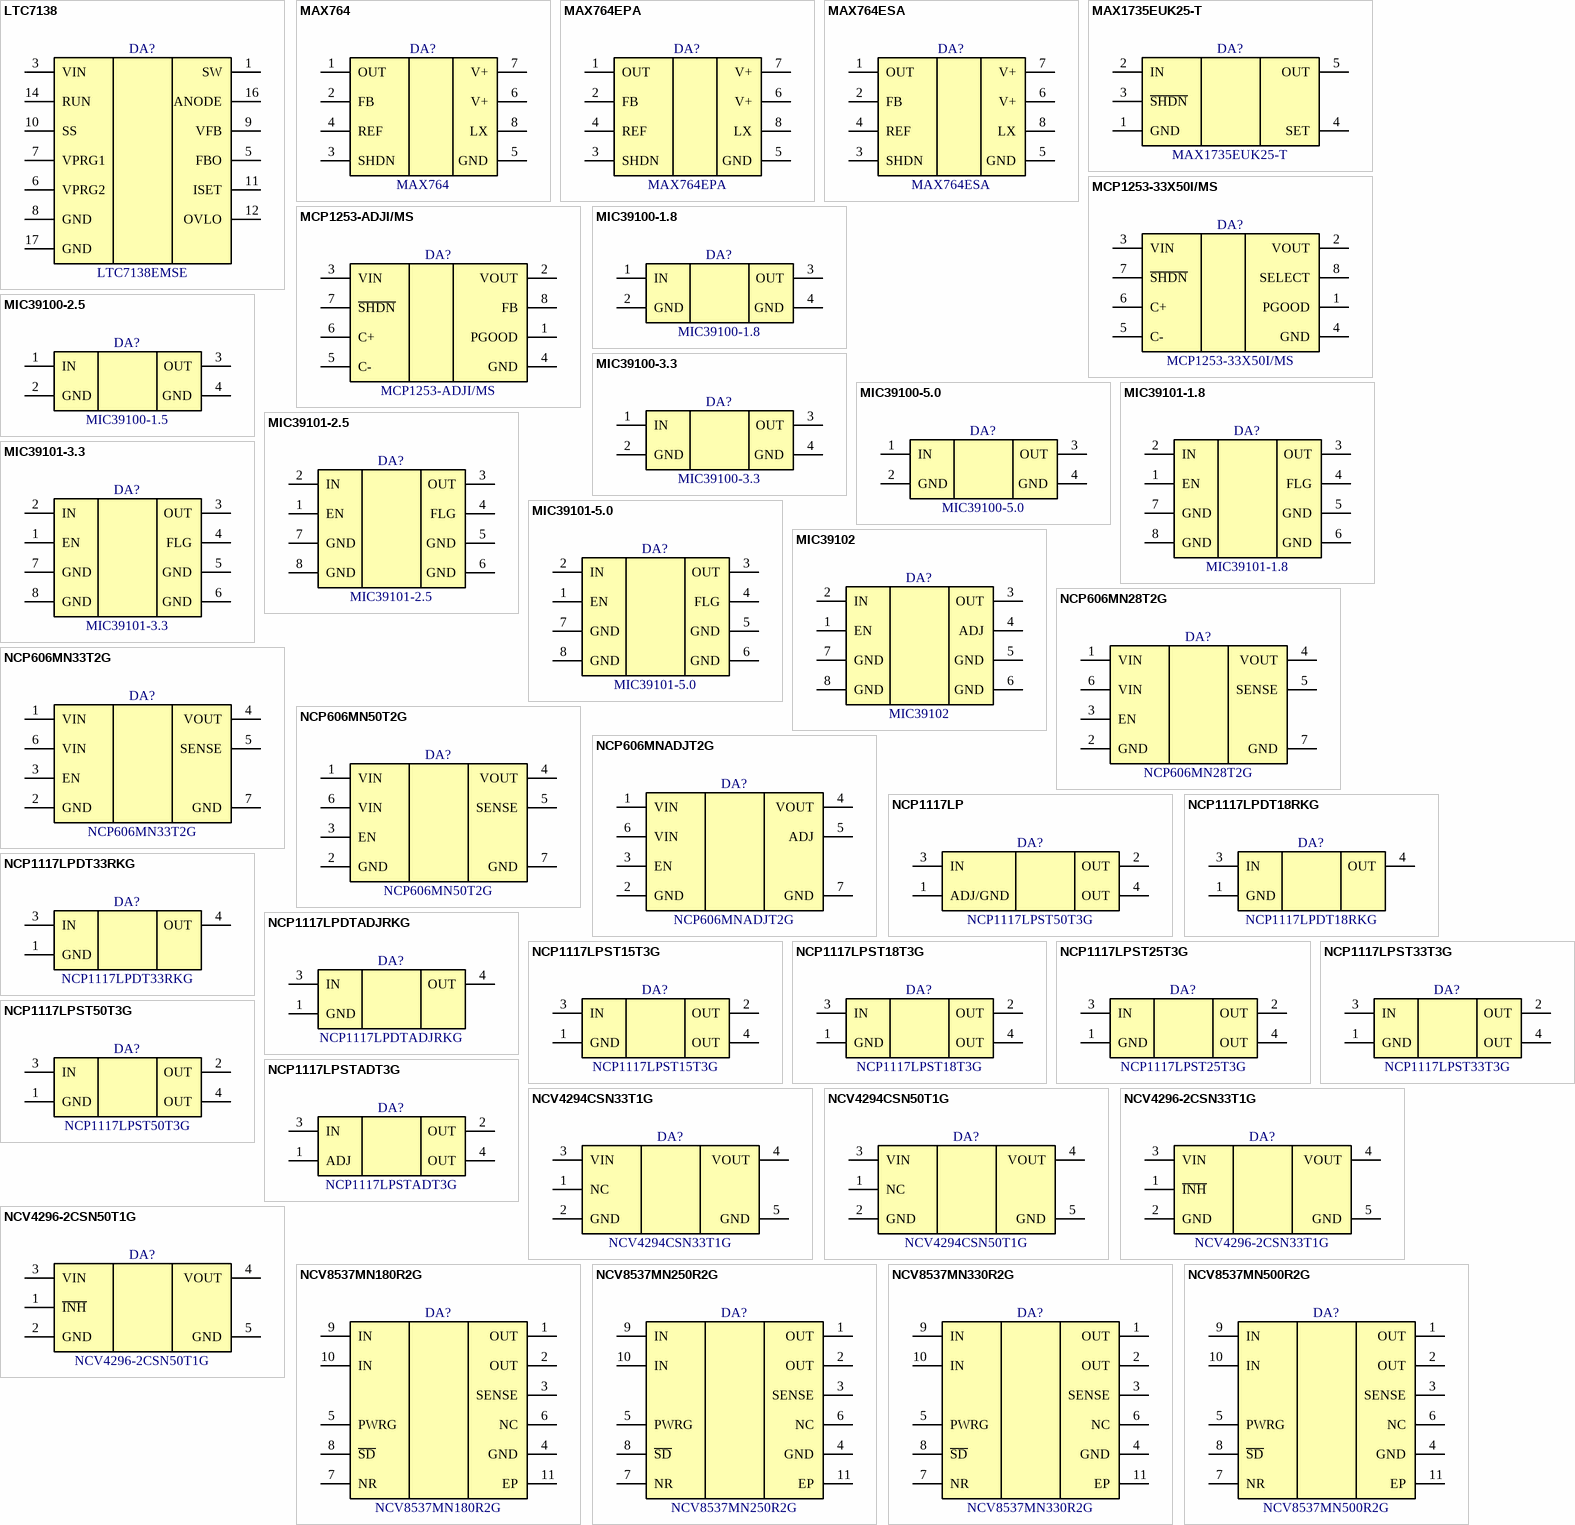
[diagram p2: symbols LTC7138 to NCV8537MN500R2G]

## LTC7138
designator DA?, comment LTC7138EMSE
High Efficiency, 140V 400mA Step-Down Regulator; Manufacturer: Analog Devices; PartNumber: LTC7138EMSE; ComponentLink1Description: Product Page; ComponentLink1URL: https://www.analog.com/en/products/ltc7138.html; ComponentLink2Description: DataSheet; ComponentLink2URL: https://www.analog.com/media/en/technical-documentation/data-sheets/7138f.pdf
footprint MSE16 (12) (Small Outline Pkg (SOP with Tab), 0.50 mm pitch; 12 pin, 4.04 mm L X 3.00 mm W X 1.10 mm H body)
pins: 1 SW, 3 VIN, 5 FBO, 6 VPRG2, 7 VPRG1, 8 GND, 9 VFB, 10 SS, 11 ISET, 12 OVLO, 14 RUN, 16 ANODE, 17 GND

## MAX764
designator DA?
DC-DC Inverter, Fixed -5 V or Adjusted; Manufacturer: Maxim Integrated; ComponentLink1Description: Product Page; ComponentLink1URL: https://www.maximintegrated.com/en/products/power/switching-regulators/MAX764.html; PartNumber: MAX764; ComponentLink2Description: DataSheet; ComponentLink2URL: https://datasheets.maximintegrated.com/en/ds/MAX764-MAX766.pdf
footprint SOIC127P600X175-8N (SOIC, 8-Leads, Body 4,90x3,90mm, Pitch 1,27mm, IPC Medium Density)
pins: 1 OUT, 2 FB, 3 SHDN, 4 REF, 5 GND, 6 V+, 7 V+, 8 LX

## MAX764EPA
designator DA?
DC-DC Inverter, Fixed -5 V or Adjusted, DIP-8; Manufacturer: Maxim Integrated; ComponentLink1Description: Product Page; ComponentLink1URL: https://www.maximintegrated.com/en/products/power/switching-regulators/MAX764.html; PartNumber: MAX764EPA; ComponentLink2Description: DataSheet; ComponentLink2URL: https://datasheets.maximintegrated.com/en/ds/MAX764-MAX766.pdf
footprint Maxim 8-PDIP-300_MIL (DIP, 7.62 mm lead span, 2.54 mm pitch; 8 pin, 9.91 mm L X 7.87 mm W X 4.572 mm H body)
pins: 1 OUT, 2 FB, 3 SHDN, 4 REF, 5 GND, 6 V+, 7 V+, 8 LX

## MAX764ESA
designator DA?
DC-DC Inverter, Fixed -5 V or Adjusted, SOIC; Manufacturer: Maxim Integrated; ComponentLink1Description: Product Page; ComponentLink1URL: https://www.maximintegrated.com/en/products/power/switching-regulators/MAX764.html; PartNumber: MAX764ESA; ComponentLink2Description: DataSheet; ComponentLink2URL: https://datasheets.maximintegrated.com/en/ds/MAX764-MAX766.pdf
footprint SOIC127P600X175-8N (SOIC, 8-Leads, Body 4,90x3,90mm, Pitch 1,27mm, IPC Medium Density)
pins: 1 OUT, 2 FB, 3 SHDN, 4 REF, 5 GND, 6 V+, 7 V+, 8 LX

## MAX1735EUK25-T
designator DA?
200mA, Negative-Output, Low-Dropout / Linear Regulator in SOT23, -2.5V or Fixed; Manufacturer: Analog Devices; PartNumber: MAX1735EUK25-T; ComponentLink1Description: Product Page; ComponentLink1URL: https://www.analog.com/en/products/MAX1735.html; ComponentLink2Description: DataSheet; ComponentLink2URL: https://www.analog.com/media/en/technical-documentation/data-sheets/MAX1735.pdf
footprint SOT23-5P95_280X145L47X42N (Small Outline Transistor (SOT23), 0.95 mm pitch; 5 pin, 2.90 mm L X 1.625 mm W X 1.45 mm H body)
pins: 1 GND, 2 IN, 3 ~{SHDN}, 4 SET, 5 OUT

## MCP1253-33X50I/MS
designator DA?
Low Noise, Positive-Regulated Charge Pump, fixed voltage; Manufacturer: Microchip; PartNumber: MCP1253-33X50I/MS; ComponentLink1Description: Product Page; ComponentLink1URL: https://www.microchip.com/en-us/product/MCP1253; ComponentLink2Description: DataSheet; ComponentLink2URL: https://ww1.microchip.com/downloads/aemDocuments/documents/APID/ProductDocuments/DataSheets/20001752C.pdf
footprint SOP8P65_300X487X118L55X32N (Small Outline Pkg (SOP), 0.65 mm pitch; 8 pin, 3.00 mm L X 3.00 mm W X 1.18 mm H body)
pins: 1 PGOOD, 2 VOUT, 3 VIN, 4 GND, 5 C-, 6 C+, 7 ~{SHDN}, 8 SELECT

## MCP1253-ADJI/MS
designator DA?
Low Noise, Positive-Regulated Charge Pump, adjustable voltage; Manufacturer: Microchip; PartNumber: MCP1253-ADJI/MS; ComponentLink1Description: Product Page; ComponentLink1URL: https://www.microchip.com/en-us/product/MCP1253; ComponentLink2Description: DataSheet; ComponentLink2URL: https://ww1.microchip.com/downloads/aemDocuments/documents/APID/ProductDocuments/DataSheets/20001752C.pdf
footprint SOP8P65_300X487X118L55X32N (Small Outline Pkg (SOP), 0.65 mm pitch; 8 pin, 3.00 mm L X 3.00 mm W X 1.18 mm H body)
pins: 1 PGOOD, 2 VOUT, 3 VIN, 4 GND, 5 C-, 6 C+, 7 ~{SHDN}, 8 FB

## MIC39100-1.8
designator DA?
1A Low-Voltage Low-Dropout Regulator, Fixed 1.8 V, SOT-223; Manufacturer: Microchip; PartNumber: MIC39100-1.8; ComponentLink1Description: Product Page; ComponentLink1URL: https://www.microchip.com/en-us/product/MIC39102; ComponentLink2Description: DataSheet; ComponentLink2URL: https://ww1.microchip.com/downloads/aemDocuments/documents/OTH/ProductDocuments/DataSheets/20005834A.pdf
footprint SOT223-4P230_700X180L87X75N (Small Outline Transistor (SOT223), 2.30 mm pitch; 4 pin, 6.50 mm L X 3.50 mm W X 1.80 mm H body)
pins: 1 IN, 2 GND, 3 OUT, 4 GND
text: Text

## MIC39100-2.5
designator DA?, comment MIC39100-1.5
1A Low-Voltage Low-Dropout Regulator, Fixed 2.5 V, SOT-223; Manufacturer: Microchip; PartNumber: MIC39100-1.5; ComponentLink1Description: Product Page; ComponentLink1URL: https://www.microchip.com/en-us/product/MIC39102; ComponentLink2Description: DataSheet; ComponentLink2URL: https://ww1.microchip.com/downloads/aemDocuments/documents/OTH/ProductDocuments/DataSheets/20005834A.pdf
footprint SOT223-4P230_700X180L87X75N (Small Outline Transistor (SOT223), 2.30 mm pitch; 4 pin, 6.50 mm L X 3.50 mm W X 1.80 mm H body)
pins: 1 IN, 2 GND, 3 OUT, 4 GND
text: Text

## MIC39100-3.3
designator DA?
1A Low-Voltage Low-Dropout Regulator, Fixed 3.3 V, SOT-223; Manufacturer: Microchip; PartNumber: MIC39100-3.3; ComponentLink1Description: Product Page; ComponentLink1URL: https://www.microchip.com/en-us/product/MIC39102; ComponentLink2Description: DataSheet; ComponentLink2URL: https://ww1.microchip.com/downloads/aemDocuments/documents/OTH/ProductDocuments/DataSheets/20005834A.pdf
footprint SOT223-4P230_700X180L87X75N (Small Outline Transistor (SOT223), 2.30 mm pitch; 4 pin, 6.50 mm L X 3.50 mm W X 1.80 mm H body)
pins: 1 IN, 2 GND, 3 OUT, 4 GND
text: Text

## MIC39100-5.0
designator DA?
1A Low-Voltage Low-Dropout Regulator, Fixed 5.0 V, SOT-223; Manufacturer: Microchip; PartNumber: MIC39100-5.0; ComponentLink1Description: Product Page; ComponentLink1URL: https://www.microchip.com/en-us/product/MIC39102; ComponentLink2Description: DataSheet; ComponentLink2URL: https://ww1.microchip.com/downloads/aemDocuments/documents/OTH/ProductDocuments/DataSheets/20005834A.pdf
footprint SOT223-4P230_700X180L87X75N (Small Outline Transistor (SOT223), 2.30 mm pitch; 4 pin, 6.50 mm L X 3.50 mm W X 1.80 mm H body)
pins: 1 IN, 2 GND, 3 OUT, 4 GND
text: Text

## MIC39101-1.8
designator DA?
1A Low-Voltage Low-Dropout Regulator,  Fixed 1.8 V, SOIC-8; Manufacturer: Microchip; PartNumber: MIC39101-1.8; ComponentLink1Description: Product Page; ComponentLink1URL: https://www.microchip.com/en-us/product/MIC39102; ComponentLink2Description: DataSheet; ComponentLink2URL: https://ww1.microchip.com/downloads/aemDocuments/documents/OTH/ProductDocuments/DataSheets/20005834A.pdf
footprint SOIC127P600X160-8N (SOIC, 8-Leads, Body 4.90x3.90mm, Pitch 1.27mm, IPC Medium Density)
pins: 1 EN, 2 IN, 3 OUT, 4 FLG, 5 GND, 6 GND, 7 GND, 8 GND
text: Text

## MIC39101-2.5
designator DA?
1A Low-Voltage Low-Dropout Regulator,  Fixed 2.5 V, SOIC-8; Manufacturer: Microchip; PartNumber: MIC39101-2.5; ComponentLink1Description: Product Page; ComponentLink1URL: https://www.microchip.com/en-us/product/MIC39102; ComponentLink2Description: DataSheet; ComponentLink2URL: https://ww1.microchip.com/downloads/aemDocuments/documents/OTH/ProductDocuments/DataSheets/20005834A.pdf
footprint SOIC127P600X160-8N (SOIC, 8-Leads, Body 4.90x3.90mm, Pitch 1.27mm, IPC Medium Density)
pins: 1 EN, 2 IN, 3 OUT, 4 FLG, 5 GND, 6 GND, 7 GND, 8 GND
text: Text

## MIC39101-3.3
designator DA?
1A Low-Voltage Low-Dropout Regulator,  Fixed 3.3 V, SOIC-8; Manufacturer: Microchip; PartNumber: MIC39101-3.3; ComponentLink1Description: Product Page; ComponentLink1URL: https://www.microchip.com/en-us/product/MIC39102; ComponentLink2Description: DataSheet; ComponentLink2URL: https://ww1.microchip.com/downloads/aemDocuments/documents/OTH/ProductDocuments/DataSheets/20005834A.pdf
footprint SOIC127P600X160-8N (SOIC, 8-Leads, Body 4.90x3.90mm, Pitch 1.27mm, IPC Medium Density)
pins: 1 EN, 2 IN, 3 OUT, 4 FLG, 5 GND, 6 GND, 7 GND, 8 GND
text: Text

## MIC39101-5.0
designator DA?
1A Low-Voltage Low-Dropout Regulator,  Fixed 5.0 V, SOIC-8; Manufacturer: Microchip; PartNumber: MIC39101-5.0; ComponentLink1Description: Product Page; ComponentLink1URL: https://www.microchip.com/en-us/product/MIC39102; ComponentLink2Description: DataSheet; ComponentLink2URL: https://ww1.microchip.com/downloads/aemDocuments/documents/OTH/ProductDocuments/DataSheets/20005834A.pdf
footprint SOIC127P600X160-8N (SOIC, 8-Leads, Body 4.90x3.90mm, Pitch 1.27mm, IPC Medium Density)
pins: 1 EN, 2 IN, 3 OUT, 4 FLG, 5 GND, 6 GND, 7 GND, 8 GND
text: Text

## MIC39102
designator DA?
1A Low-Voltage Low-Dropout Regulator, Adj, SOIC-8; Manufacturer: Microchip; PartNumber: MIC39102; ComponentLink1Description: Product Page; ComponentLink1URL: https://www.microchip.com/en-us/product/MIC39102; ComponentLink2Description: DataSheet; ComponentLink2URL: https://ww1.microchip.com/downloads/aemDocuments/documents/OTH/ProductDocuments/DataSheets/20005834A.pdf
footprint SOIC127P600X160-8N (SOIC, 8-Leads, Body 4.90x3.90mm, Pitch 1.27mm, IPC Medium Density)
pins: 1 EN, 2 IN, 3 OUT, 4 ADJ, 5 GND, 6 GND, 7 GND, 8 GND
text: Text

## NCP606MN28T2G
designator DA?
LDO Low IGND, CMOS with Enable / and with Enhanced 500 mA, 2.8V Fixed; Manufacturer: OnSemi; PartNumber: NCP606MN28T2G; ComponentLink1Description: Product Page; ComponentLink1URL: https://www.onsemi.com/products/power-management/linear-regulators-ldo/ncp605; ComponentLink2Description: DataSheet; ComponentLink2URL: https://www.onsemi.com/download/data-sheet/pdf/ncp605-d.pdf
footprint SON7P95_300X330X100L65X35T200X120N (Small Outline No-Lead (SON with Tab), 0.95 mm pitch; 6 pin, 3.00 mm L X 3.30 mm W X 1.00 mm H body)
pins: 1 VIN, 2 GND, 3 EN, 4 VOUT, 5 SENSE, 6 VIN, 7 GND

## NCP606MN33T2G
designator DA?
LDO Low IGND, CMOS with Enable / and with Enhanced 500 mA, 3.3V Fixed; Manufacturer: OnSemi; PartNumber: NCP606MN33T2G; ComponentLink1Description: Product Page; ComponentLink1URL: https://www.onsemi.com/products/power-management/linear-regulators-ldo/ncp605; ComponentLink2Description: DataSheet; ComponentLink2URL: https://www.onsemi.com/download/data-sheet/pdf/ncp605-d.pdf
footprint SON7P95_300X330X100L65X35T200X120N (Small Outline No-Lead (SON with Tab), 0.95 mm pitch; 6 pin, 3.00 mm L X 3.30 mm W X 1.00 mm H body)
pins: 1 VIN, 2 GND, 3 EN, 4 VOUT, 5 SENSE, 6 VIN, 7 GND

## NCP606MN50T2G
designator DA?
LDO Low IGND, CMOS with Enable / and with Enhanced 500 mA, 5V Fixed; Manufacturer: OnSemi; PartNumber: NCP606MN50T2G; ComponentLink1Description: Product Page; ComponentLink1URL: https://www.onsemi.com/products/power-management/linear-regulators-ldo/ncp605; ComponentLink2Description: DataSheet; ComponentLink2URL: https://www.onsemi.com/download/data-sheet/pdf/ncp605-d.pdf
footprint SON7P95_300X330X100L65X35T200X120N (Small Outline No-Lead (SON with Tab), 0.95 mm pitch; 6 pin, 3.00 mm L X 3.30 mm W X 1.00 mm H body)
pins: 1 VIN, 2 GND, 3 EN, 4 VOUT, 5 SENSE, 6 VIN, 7 GND

## NCP606MNADJT2G
designator DA?
LDO Low IGND, CMOS with Enable / and with Enhanced 500 mA, Adj.; Manufacturer: OnSemi; PartNumber: NCP606MNADJT2G; ComponentLink1Description: Product Page; ComponentLink1URL: https://www.onsemi.com/products/power-management/linear-regulators-ldo/ncp605; ComponentLink2Description: DataSheet; ComponentLink2URL: https://www.onsemi.com/download/data-sheet/pdf/ncp605-d.pdf
footprint SON7P95_300X330X100L65X35T200X120N (Small Outline No-Lead (SON with Tab), 0.95 mm pitch; 6 pin, 3.00 mm L X 3.30 mm W X 1.00 mm H body)
pins: 1 VIN, 2 GND, 3 EN, 4 VOUT, 5 ADJ, 6 VIN, 7 GND

## NCP1117LP
designator DA?, comment NCP1117LPST50T3G
1.0 A Low-Dropout Positive / Fixed and Adjustable / Voltage Regulators; Manufacturer: OnSemi; PartNumber: NCP1117LPST50T3G; ComponentLink1Description: Product Page; ComponentLink1URL: https://www.lcsc.com/; ComponentLink2Description: DataSheet; ComponentLink2URL: https://www.onsemi.com/download/data-sheet/pdf/ncp1117lp-d.pdf
footprint SOT223-4P230_700X180L92X74N (Small Outline Transistor (SOT223), 2.30 mm pitch; 4 pin, 6.50 mm L X 3.50 mm W X 1.80 mm H body)
pins: 1 ADJ/GND, 2 OUT, 3 IN, 4 OUT

## NCP1117LPDT18RKG
designator DA?
1.0 A Low-Dropout Positive LDO / Fixed 1.8 V, DPAK; Manufacturer: OnSemi; PartNumber: NCP1117LPDT18RKG; ComponentLink1Description: Product Page; ComponentLink1URL: https://www.onsemi.com/products/power-management/linear-regulators-ldo/ncp1117lp; ComponentLink2Description: DataSheet; ComponentLink2URL: https://www.onsemi.com/download/data-sheet/pdf/ncp1117lp-d.pdf
footprint OnSemi CASE 369C ISSUE G (DPAK, 2.29 mm pitch; 2 pin, 6.095 mm L X 6.54 mm W X 2.38 mm H body)
pins: 1 GND, 3 IN, 4 OUT

## NCP1117LPDT33RKG
designator DA?
1.0 A Low-Dropout Positive LDO / Fixed 3.3 V, DPAK; Manufacturer: OnSemi; PartNumber: NCP1117LPDT33RKG; ComponentLink1Description: Product Page; ComponentLink1URL: https://www.onsemi.com/products/power-management/linear-regulators-ldo/ncp1117lp; ComponentLink2Description: DataSheet; ComponentLink2URL: https://www.onsemi.com/download/data-sheet/pdf/ncp1117lp-d.pdf
footprint OnSemi CASE 369C ISSUE G (DPAK, 2.29 mm pitch; 2 pin, 6.095 mm L X 6.54 mm W X 2.38 mm H body)
pins: 1 GND, 3 IN, 4 OUT

## NCP1117LPDTADJRKG
designator DA?
1.0 A Low-Dropout Positive LDO / Adjustable, DPAK; Manufacturer: OnSemi; PartNumber: NCP1117LPDTADJRKG; ComponentLink1Description: Product Page; ComponentLink1URL: https://www.onsemi.com/products/power-management/linear-regulators-ldo/ncp1117lp; ComponentLink2Description: DataSheet; ComponentLink2URL: https://www.onsemi.com/download/data-sheet/pdf/ncp1117lp-d.pdf
footprint OnSemi CASE 369C ISSUE G (DPAK, 2.29 mm pitch; 2 pin, 6.095 mm L X 6.54 mm W X 2.38 mm H body)
pins: 1 GND, 3 IN, 4 OUT

## NCP1117LPST15T3G
designator DA?
1.0 A Low-Dropout Positive LDO / Fixed 1.5 V, SOT-223; Manufacturer: OnSemi; PartNumber: NCP1117LPST15T3G; ComponentLink1Description: Product Page; ComponentLink1URL: https://www.onsemi.com/products/power-management/linear-regulators-ldo/ncp1117lp; ComponentLink2Description: DataSheet; ComponentLink2URL: https://www.onsemi.com/download/data-sheet/pdf/ncp1117lp-d.pdf
footprint SOT223-4P230_700X180L92X74N (Small Outline Transistor (SOT223), 2.30 mm pitch; 4 pin, 6.50 mm L X 3.50 mm W X 1.80 mm H body)
pins: 1 GND, 2 OUT, 3 IN, 4 OUT

## NCP1117LPST18T3G
designator DA?
1.0 A Low-Dropout Positive LDO / Fixed 1.8 V, SOT-223; Manufacturer: OnSemi; PartNumber: NCP1117LPST18T3G; ComponentLink1Description: Product Page; ComponentLink1URL: https://www.onsemi.com/products/power-management/linear-regulators-ldo/ncp1117lp; ComponentLink2Description: DataSheet; ComponentLink2URL: https://www.onsemi.com/download/data-sheet/pdf/ncp1117lp-d.pdf
footprint SOT223-4P230_700X180L92X74N (Small Outline Transistor (SOT223), 2.30 mm pitch; 4 pin, 6.50 mm L X 3.50 mm W X 1.80 mm H body)
pins: 1 GND, 2 OUT, 3 IN, 4 OUT

## NCP1117LPST25T3G
designator DA?
1.0 A Low-Dropout Positive LDO / Fixed 2.5 V, SOT-223; Manufacturer: OnSemi; PartNumber: NCP1117LPST25T3G; ComponentLink1Description: Product Page; ComponentLink1URL: https://www.onsemi.com/products/power-management/linear-regulators-ldo/ncp1117lp; ComponentLink2Description: DataSheet; ComponentLink2URL: https://www.onsemi.com/download/data-sheet/pdf/ncp1117lp-d.pdf
footprint SOT223-4P230_700X180L92X74N (Small Outline Transistor (SOT223), 2.30 mm pitch; 4 pin, 6.50 mm L X 3.50 mm W X 1.80 mm H body)
pins: 1 GND, 2 OUT, 3 IN, 4 OUT

## NCP1117LPST33T3G
designator DA?
1.0 A Low-Dropout Positive LDO / Fixed 3.3 V, SOT-223; Manufacturer: OnSemi; PartNumber: NCP1117LPST33T3G; ComponentLink1Description: Product Page; ComponentLink1URL: https://www.onsemi.com/products/power-management/linear-regulators-ldo/ncp1117lp; ComponentLink2Description: DataSheet; ComponentLink2URL: https://www.onsemi.com/download/data-sheet/pdf/ncp1117lp-d.pdf
footprint SOT223-4P230_700X180L92X74N (Small Outline Transistor (SOT223), 2.30 mm pitch; 4 pin, 6.50 mm L X 3.50 mm W X 1.80 mm H body)
pins: 1 GND, 2 OUT, 3 IN, 4 OUT

## NCP1117LPST50T3G
designator DA?
1.0 A Low-Dropout Positive LDO / Fixed 5.0 V, SOT-223; Manufacturer: OnSemi; PartNumber: NCP1117LPST50T3G; ComponentLink1Description: Product Page; ComponentLink1URL: https://www.onsemi.com/products/power-management/linear-regulators-ldo/ncp1117lp; ComponentLink2Description: DataSheet; ComponentLink2URL: https://www.onsemi.com/download/data-sheet/pdf/ncp1117lp-d.pdf
footprint SOT223-4P230_700X180L92X74N (Small Outline Transistor (SOT223), 2.30 mm pitch; 4 pin, 6.50 mm L X 3.50 mm W X 1.80 mm H body)
pins: 1 GND, 2 OUT, 3 IN, 4 OUT

## NCP1117LPSTADT3G
designator DA?
1.0 A Low-Dropout Positive LDO / Adjustable, SOT-223; Manufacturer: OnSemi; PartNumber: NCP1117LPSTADT3G; ComponentLink1Description: Product Page; ComponentLink1URL: https://www.onsemi.com/products/power-management/linear-regulators-ldo/ncp1117lp; ComponentLink2Description: DataSheet; ComponentLink2URL: https://www.onsemi.com/download/data-sheet/pdf/ncp1117lp-d.pdf
footprint SOT223-4P230_700X180L92X74N (Small Outline Transistor (SOT223), 2.30 mm pitch; 4 pin, 6.50 mm L X 3.50 mm W X 1.80 mm H body)
pins: 1 ADJ, 2 OUT, 3 IN, 4 OUT

## NCV4294CSN33T1G
designator DA?
Voltage Regulator - Low Dropout, 30 mA, Fixed 3.3V; Manufacturer: OnSemi; PartNumber: NCV4294CSN33T1G; ComponentLink1Description: Product Page; ComponentLink1URL: https://www.onsemi.com/products/power-management/linear-regulators-ldo/ncv4294c; ComponentLink2Description: DataSheet; ComponentLink2URL: https://www.onsemi.com/download/data-sheet/pdf/ncv4294c-d.pdf
footprint SOT23-5P95_275X110L40X37N (Small Outline Transistor (SOT23), 0.95 mm pitch; 5 pin, 3.00 mm L X 1.50 mm W X 1.10 mm H body)
pins: 1 NC, 2 GND, 3 VIN, 4 VOUT, 5 GND

## NCV4294CSN50T1G
designator DA?
Voltage Regulator - Low Dropout, 30 mA, Fixed 5V; Manufacturer: OnSemi; PartNumber: NCV4294CSN50T1G; ComponentLink1Description: Product Page; ComponentLink1URL: https://www.onsemi.com/products/power-management/linear-regulators-ldo/ncv4294c; ComponentLink2Description: DataSheet; ComponentLink2URL: https://www.onsemi.com/download/data-sheet/pdf/ncv4294c-d.pdf
footprint SOT23-5P95_275X110L40X37N (Small Outline Transistor (SOT23), 0.95 mm pitch; 5 pin, 3.00 mm L X 1.50 mm W X 1.10 mm H body)
pins: 1 NC, 2 GND, 3 VIN, 4 VOUT, 5 GND

## NCV4296-2CSN33T1G
designator DA?
Voltage Regulator - Low Dropout, 30 mA, Inhibit (EN), Fixed 3.3V; Manufacturer: OnSemi; PartNumber: NCV4296-2CSN33T1G; ComponentLink1Description: Product Page; ComponentLink1URL: https://www.onsemi.com/products/power-management/linear-regulators-ldo/ncv4296-2c; ComponentLink2Description: DataSheet; ComponentLink2URL: https://www.onsemi.com/download/data-sheet/pdf/ncv4296-2c-d.pdf
footprint SOT23-5P95_275X110L40X37N (Small Outline Transistor (SOT23), 0.95 mm pitch; 5 pin, 3.00 mm L X 1.50 mm W X 1.10 mm H body)
pins: 1 ~{INH}, 2 GND, 3 VIN, 4 VOUT, 5 GND

## NCV4296-2CSN50T1G
designator DA?
Voltage Regulator - Low Dropout, 30 mA, Inhibit (EN), Fixed 5V; Manufacturer: OnSemi; PartNumber: NCV4296-2CSN50T1G; ComponentLink1Description: Product Page; ComponentLink1URL: https://www.onsemi.com/products/power-management/linear-regulators-ldo/ncv4296-2c; ComponentLink2Description: DataSheet; ComponentLink2URL: https://www.onsemi.com/download/data-sheet/pdf/ncv4296-2c-d.pdf
footprint SOT23-5P95_275X110L40X37N (Small Outline Transistor (SOT23), 0.95 mm pitch; 5 pin, 3.00 mm L X 1.50 mm W X 1.10 mm H body)
pins: 1 ~{INH}, 2 GND, 3 VIN, 4 VOUT, 5 GND

## NCV8537MN180R2G
designator DA?
LDO, High Accuracy, Low Dropout, Power Good Function / 500 mA, 1.8 V Fixed; Manufacturer: OnSemi; PartNumber: NCV8537MN180R2G; ComponentLink1Description: Product Page; ComponentLink1URL: https://www.onsemi.com/products/power-management/linear-regulators-ldo/ncv8537; ComponentLink2Description: DataSheet; ComponentLink2URL: https://www.onsemi.com/download/data-sheet/pdf/ncv8537-d.pdf
footprint SON11P50_300X300X100L40X24T250X180N (Small Outline No-Lead (SON with Tab), 0.50 mm pitch; 10 pin, 3.00 mm L X 3.00 mm W X 1.00 mm H body)
pins: 1 OUT, 2 OUT, 3 SENSE, 4 GND, 5 PWRG, 6 NC, 7 NR, 8 ~{SD}, 9 IN, 10 IN, 11 EP

## NCV8537MN250R2G
designator DA?
LDO, High Accuracy, Low Dropout, Power Good Function / 500 mA, 2.5 V Fixed; Manufacturer: OnSemi; PartNumber: NCV8537MN250R2G; ComponentLink1Description: Product Page; ComponentLink1URL: https://www.onsemi.com/products/power-management/linear-regulators-ldo/ncv8537; ComponentLink2Description: DataSheet; ComponentLink2URL: https://www.onsemi.com/download/data-sheet/pdf/ncv8537-d.pdf
footprint SON11P50_300X300X100L40X24T250X180N (Small Outline No-Lead (SON with Tab), 0.50 mm pitch; 10 pin, 3.00 mm L X 3.00 mm W X 1.00 mm H body)
pins: 1 OUT, 2 OUT, 3 SENSE, 4 GND, 5 PWRG, 6 NC, 7 NR, 8 ~{SD}, 9 IN, 10 IN, 11 EP

## NCV8537MN330R2G
designator DA?
LDO, High Accuracy, Low Dropout, Power Good Function / 500 mA, 3.3 V Fixed; Manufacturer: OnSemi; PartNumber: NCV8537MN330R2G; ComponentLink1Description: Product Page; ComponentLink1URL: https://www.onsemi.com/products/power-management/linear-regulators-ldo/ncv8537; ComponentLink2Description: DataSheet; ComponentLink2URL: https://www.onsemi.com/download/data-sheet/pdf/ncv8537-d.pdf
footprint SON11P50_300X300X100L40X24T250X180N (Small Outline No-Lead (SON with Tab), 0.50 mm pitch; 10 pin, 3.00 mm L X 3.00 mm W X 1.00 mm H body)
pins: 1 OUT, 2 OUT, 3 SENSE, 4 GND, 5 PWRG, 6 NC, 7 NR, 8 ~{SD}, 9 IN, 10 IN, 11 EP

## NCV8537MN500R2G
designator DA?
LDO, High Accuracy, Low Dropout, Power Good Function / 500 mA, 5 V Fixed; Manufacturer: OnSemi; PartNumber: NCV8537MN500R2G; ComponentLink1Description: Product Page; ComponentLink1URL: https://www.onsemi.com/products/power-management/linear-regulators-ldo/ncv8537; ComponentLink2Description: DataSheet; ComponentLink2URL: https://www.onsemi.com/download/data-sheet/pdf/ncv8537-d.pdf
footprint SON11P50_300X300X100L40X24T250X180N (Small Outline No-Lead (SON with Tab), 0.50 mm pitch; 10 pin, 3.00 mm L X 3.00 mm W X 1.00 mm H body)
pins: 1 OUT, 2 OUT, 3 SENSE, 4 GND, 5 PWRG, 6 NC, 7 NR, 8 ~{SD}, 9 IN, 10 IN, 11 EP

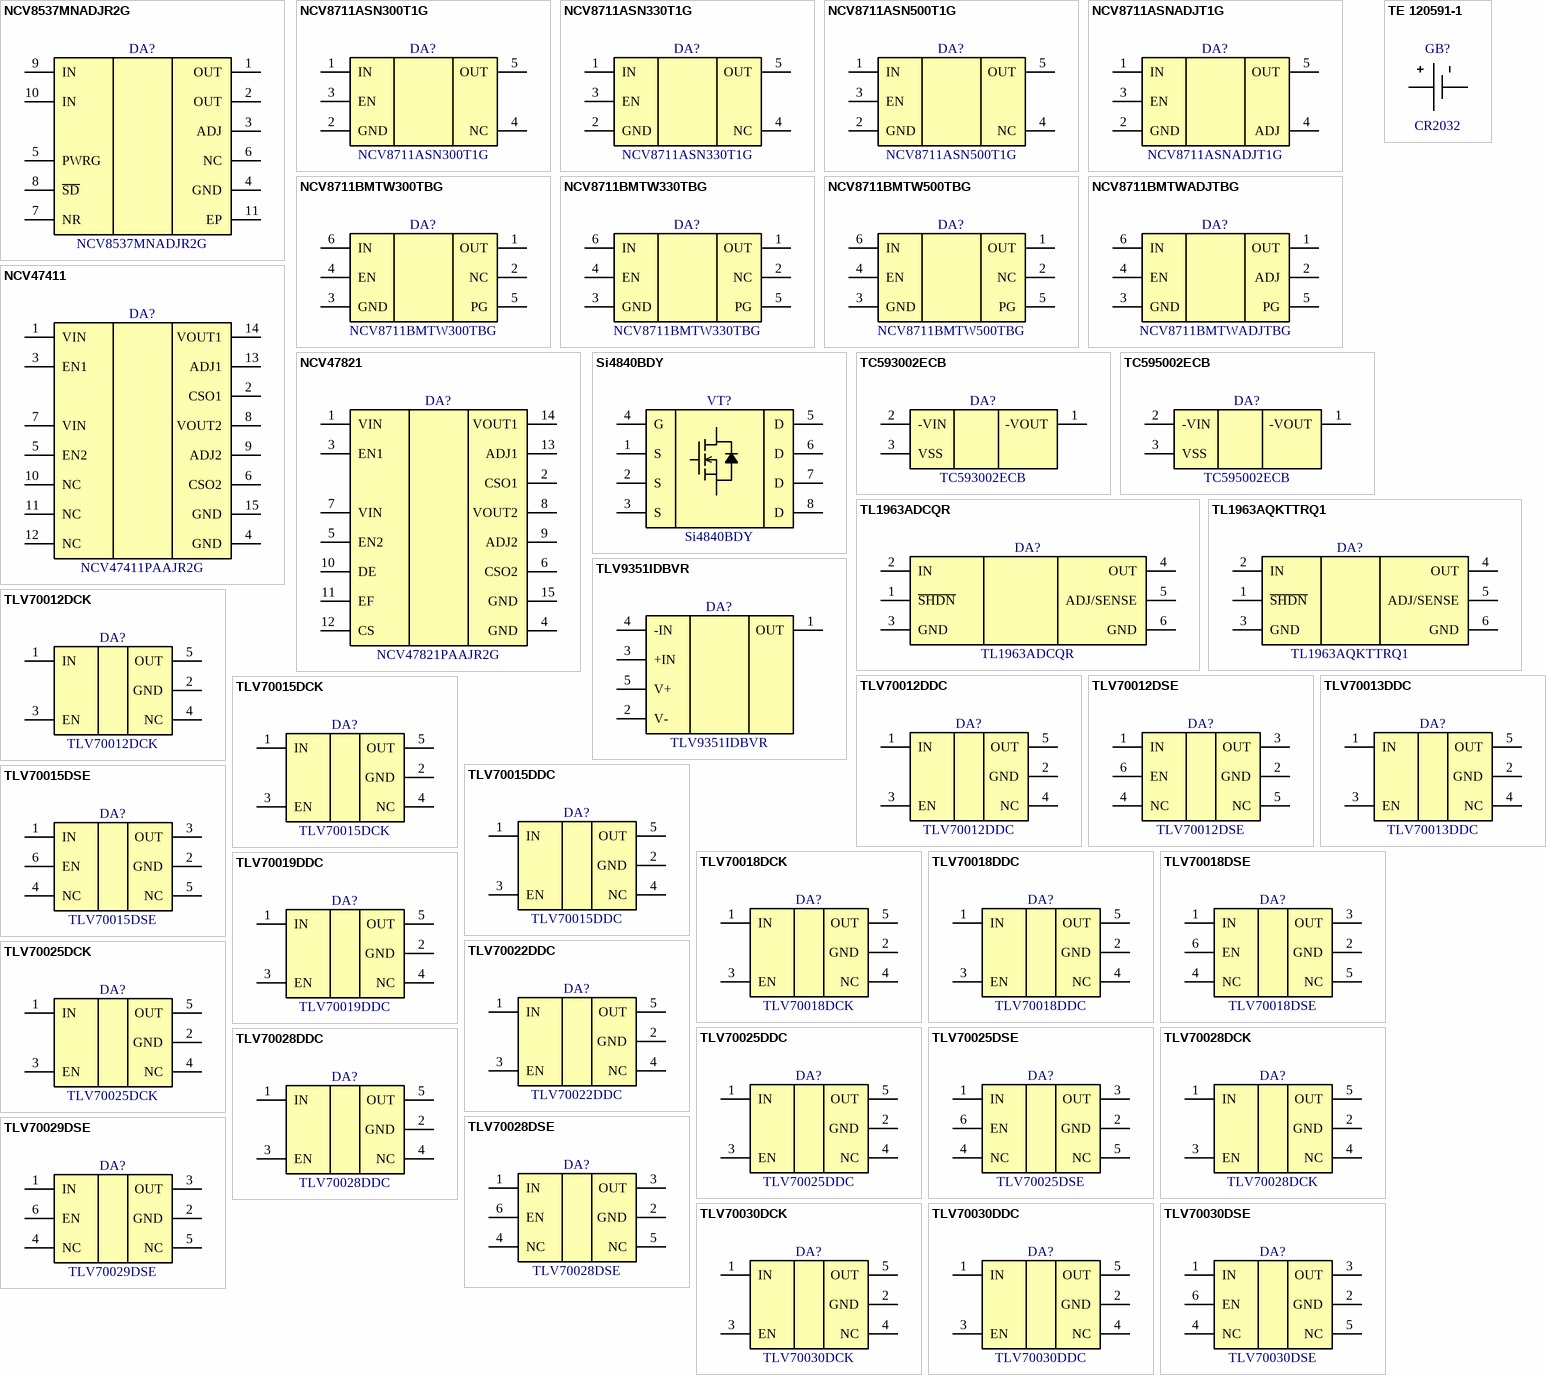
[diagram p3: symbols NCV8537MNADJR2G to TLV70030DSE]

## NCV8537MNADJR2G
designator DA?
LDO, High Accuracy, Low Dropout, Power Good Function / 500 mA, Adj; Manufacturer: OnSemi; PartNumber: NCV8537MNADJR2G; ComponentLink1Description: Product Page; ComponentLink1URL: https://www.onsemi.com/products/power-management/linear-regulators-ldo/ncv8537; ComponentLink2Description: DataSheet; ComponentLink2URL: https://www.onsemi.com/download/data-sheet/pdf/ncv8537-d.pdf
footprint SON11P50_300X300X100L40X24T250X180N (Small Outline No-Lead (SON with Tab), 0.50 mm pitch; 10 pin, 3.00 mm L X 3.00 mm W X 1.00 mm H body)
pins: 1 OUT, 2 OUT, 3 ADJ, 4 GND, 5 PWRG, 6 NC, 7 NR, 8 ~{SD}, 9 IN, 10 IN, 11 EP